# Altium schematic symbol library ICs.SchLib: 51 symbols (part 1 of 2)
Pins are listed as number, name and electrical type; pins without a type are passive.

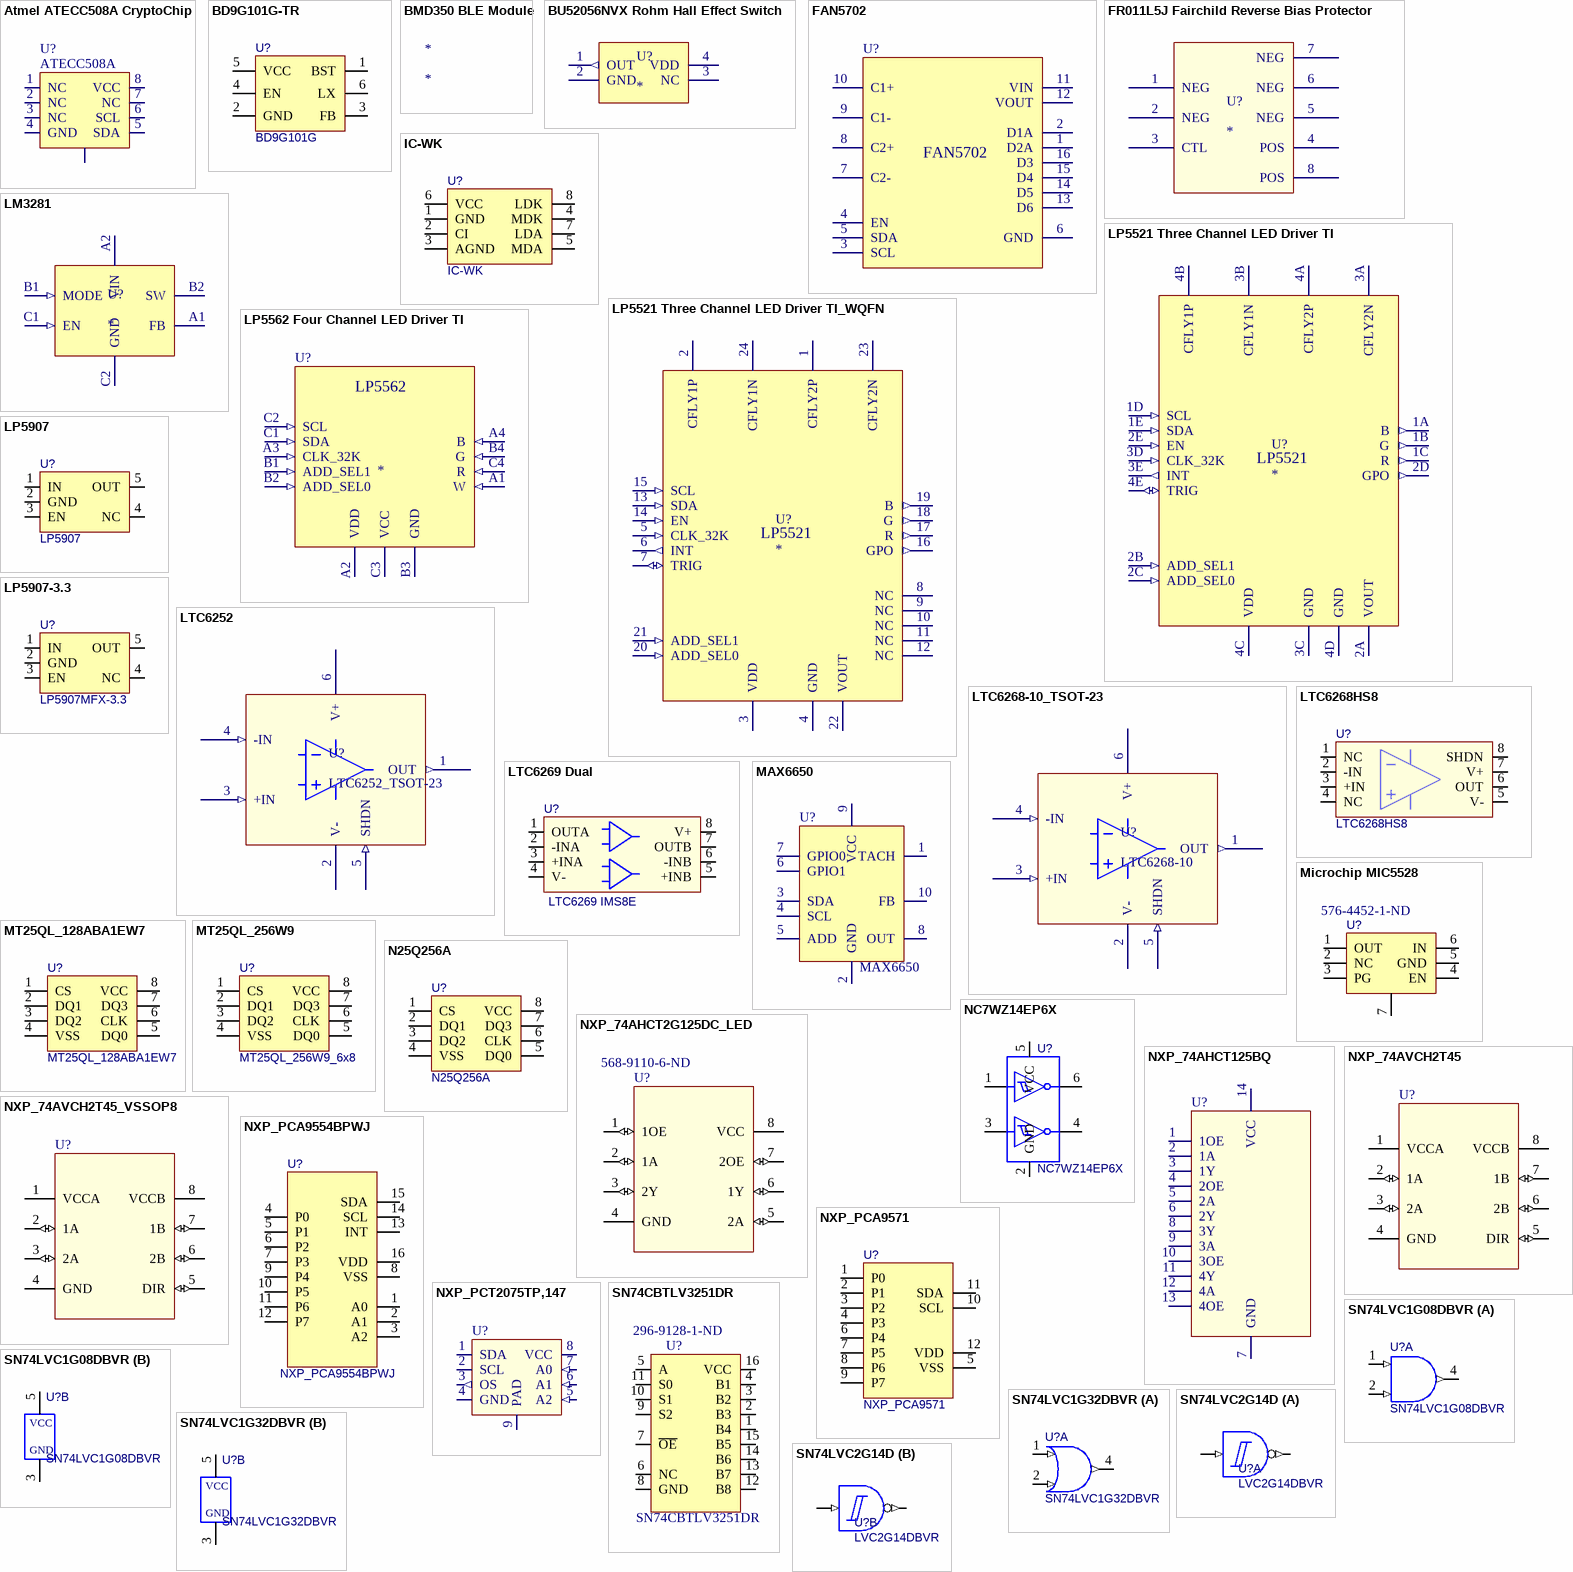
[diagram p0: symbols Atmel ATECC508A CryptoChip to SN74LVC2G14D]

## Atmel ATECC508A CryptoChip
designator U?, comment ATECC508A
IC CryptoAuthentication Device, I2C, 8-UFDFN Exposed Pad; Manufacturer: Atmel; Manufacturer Part Number: ATECC508A-MAHDA-S; TZOA PN: 242-00001; Supplier 1: Digikey; Stock 1: 92601; Pricing 1: 1=0.73, 25=0.678 (USD); Category: Integrated Circuits (ICs); Family: Specialized ICs; Series: CryptoAuthentication™; Packaging: Cut Tape (CT); Type: Authentication Chip; Applications: Networking and Communications; Mounting Type: Surface Mount; Package / Case: 8-UFDFN Exposed Pad; Supplier Device Package: 8-UDFN (2x3); Supplier Part Number 1: ATECC508A-MAHDA-SCT-ND; Supplier 2: Digi-Key; Stock 2: 52626; Pricing 2: 1=0.78, 25=0.7196, 100=0.7063 (USD)
footprint 8-UDFN 2x3 (JEDEC MO-229)
pins: 1 NC, 2 NC, 3 NC, 4 GND (power), 5 SDA (io), 6 SCL (io), 7 NC, 8 VCC (power), 9 PAD (power)

## BD9G101G-TR
designator U?, comment BD9G101G
IC, Switching Regulator,0.5A,SOT-23-6; Manufacturer: Rohm Semiconductor; Manufacturer Part Number: BD9G101G-TR; Details: 0.5A; Supplier 1: Digi-Key; Supplier Part Number 1: BD9G101G-CT-ND; Package: SOT-23-6; Temperature Range: -40°C ~ 105°C
footprint SOT-23T-6 (SOT-23.ogl)
pins: 1 BST, 2 GND, 3 FB, 4 EN, 5 VCC, 6 LX

## BMD350 BLE Module
designator *

## BU52056NVX Rohm Hall Effect Switch
designator U?
Supplier 1: Digi-Key; Supplier Part Number 1: BU52056NVXCT-ND
footprint BU52056NVX (Rohm hall effect sensor)
pins: 1 OUT (out), 2 GND (power), 3 NC, 4 VDD (power)

## FAN5702
designator U?  (value not drawn)
4 Channel LED Driver; Manufacturer: ON Semiconductor / Fairchild; Manufacturer Part Number: FAN5702UMP08X; Design Resources: Lighting Product Selector; Topology: Switched Capacitor (Charge Pump); Internal Switch(s): Yes; Number of Outputs: 6; Voltage - Supply (Min): 2.7V; Voltage - Supply (Max): 5.5V; Current - Output / Channel: 30mA; Frequency: 1.2MHz; Dimming: I²C, PWM; Other Names: FAN5702UMP08X-ND  FAN5702UMP08XTR; Supplier 1: Digi-Key; Stock 1: 1351; Pricing 1: 1=1, 10=0.896, 100=0.6989, 500=0.5773, 1000=0.4558 (USD); Standard Package: 3,000; Category: Integrated Circuits (ICs); Family: PMIC - LED Drivers; Series: -; Packaging: Tape & Reel (TR); Type: DC DC Regulator; Voltage - Output: -; Applications: Backlight; Operating Temperature: -40°C ~ 85°C (TA); Mounting Type: Surface Mount; Package / Case: 16-UFQFN Exposed Pad; Supplier Device Package: 16-UMLP (3x3); ComponentLink1URL: https://datasheet.ciiva.com/15135/getdatasheetpartid-659894-15135745.pdf; ComponentLink1Description: https://datasheet.ciiva.com/15135/getdatasheetpartid-659894-15135745.pdf; ComponentLink2URL: https://datasheet.ciiva.com/29602/fan5702-29602741.pdf; ComponentLink2Description: https://datasheet.ciiva.com/29602/fan5702-29602741.pdf; ComponentLink3URL: https://datasheet.ciiva.com/3164/fan5702-3164267.pdf; ComponentLink3Description: https://datasheet.ciiva.com/3164/fan5702-3164267.pdf; ComponentLink4URL: https://datasheet.ciiva.com/26111/fan5702-26111037.pdf; ComponentLink4Description: https://datasheet.ciiva.com/26111/fan5702-26111037.pdf; Supplier Part Number 1: FAN5702UMP08XDKR-ND
footprint UMLP-16
pins: 1 D2A, 2 D1A, 3 SCL, 4 EN, 5 SDA, 6 GND, 7 C2-, 8 C2+, 9 C1-, 10 C1+, 11 VIN, 12 VOUT, 13 D6, 14 D5, 15 D4, 16 D3

## FR011L5J Fairchild Reverse Bias Protector
designator U?
Supplier 1: Digi-Key; Supplier Part Number 1: FR011L5JFSCT-ND
footprint FR011L5J
pins: 1 NEG (power), 2 NEG (power), 3 CTL (power), 4 POS (power), 5 NEG (power), 6 NEG (power), 7 NEG (power), 8 POS (power)

## IC-WK
designator U?
LASER DRIVER 2.4 V CW MSOP8; Manufacturer: IC-HAUS; Manufacturer Part Number: IC-WK MSOP8; TZOA PN: 292-00001; Supplier 1: SYMMETRY ELECTRONICS; Supplier Part Number 1: IC-WKMSOP8
footprint MSOP-8
pins: 1 GND, 2 CI, 3 AGND, 4 MDK, 5 MDA, 6 VCC, 7 LDA, 8 LDK

## LM3281
designator U?
Manufacturer: Texas Instruments; Manufacturer Part Number: LM3281YFQR; Function: Step-Down; Output Configuration: Positive; Topology: Buck; Output Type: Fixed; Number of Outputs: 1; Voltage - Input (Min): 3V; Voltage - Input (Max): 5.5V; Voltage - Output (Min/Fixed): 3.3V; Current - Output: 1.2A; Frequency - Switching: 6MHz; Synchronous Rectifier: Yes; Supplier 1: Digi-Key; Supplier Part Number 1: 296-40185-1-ND; RoHS: RoHS Compliant; Category: Integrated Circuits (ICs); Stock: 2636; Pricing: 1=1.3, 10=1.16, 100=0.9039, 500=0.7475, 1000=0.47673 (CAD); Packaging: Cut Tape (CT); Part Status: Active; Voltage - Output (Max): -; Operating Temperature: -30°C ~ 90°C (TA); Mounting Type: Surface Mount; Package / Case: 6-UFBGA, DSBGA; Supplier Device Package: 6-DSBGA; ComponentLink1URL: http://www.ti.com/lit/ds/symlink/lm3281.pdf; ComponentLink1Description: http://www.ti.com/lit/ds/symlink/lm3281.pdf
footprint 6 UFBGA
pins: A1 FB (power), A2 VIN (power), B1 MODE (in), B2 SW (power), C1 EN (in), C2 GND (power)

## LP5521 Three Channel LED Driver TI
designator U?
Manufacturer: Texas Instruments; Manufacturer Part Number: LP5521TMX/NOPB; Topology: Switched Capacitor (Charge Pump); Internal Switch(s): Yes; Number of Outputs: 3; Voltage - Supply (Min): 2.7V; Voltage - Supply (Max): 5.5V; Voltage - Output: 4.55V; Current - Output / Channel: 25.5mA; Frequency: 1.25MHz; Dimming: I²C; Supplier 1: Digi-Key; Supplier Part Number 1: 296-35208-1-ND; RoHS: RoHS Compliant; Category: Integrated Circuits (ICs); Stock: 2508; Pricing: 1=1.72, 10=1.546, 100=1.2056, 500=0.99706, 1000=0.63588 (CAD); Packaging: Cut Tape (CT); Part Status: Active; Type: DC DC Regulator; Applications: Backlight; Operating Temperature: -30°C ~ 85°C (TA); Mounting Type: Surface Mount; Package / Case: 20-WFBGA; Supplier Device Package: 20-TuSMD; ComponentLink1URL: http://www.ti.com/lit/ds/symlink/lp5521.pdf; ComponentLink1Description: http://www.ti.com/lit/ds/symlink/lp5521.pdf
footprint LP5521TM_DSBGA20
pins: 1A B (out), 1B G (out), 1C R (out), 1D SCL (in), 1E SDA (in), 2A VOUT (power), 2B ADD_SEL1 (in), 2C ADD_SEL0 (in), 2D GPO (out), 2E EN (in), 3A CFLY2N (power), 3B CFLY1N (power), 3C GND (power), 3D CLK_32K (in), 3E INT (out), 4A CFLY2P (power), 4B CFLY1P (power), 4C VDD (power), 4D GND (power), 4E TRIG (io)
text: LP5521

## LP5521 Three Channel LED Driver TI_WQFN
designator U?
Manufacturer: Texas Instruments; Manufacturer Part Number: LP5521YQX/NOPB; Topology: Switched Capacitor (Charge Pump); Internal Switch(s): Yes; Number of Outputs: 3; Voltage - Supply (Min): 2.7V; Voltage - Supply (Max): 5.5V; Voltage - Output: 4.5V; Current - Output / Channel: 25.5mA; Frequency: 1.25MHz; Dimming: I²C; Supplier 1: Digi-Key; Supplier Part Number 1: 296-43243-1-ND; RoHS: RoHS Compliant; Category: Integrated Circuits (ICs); Stock: 20667; Pricing: 1=2.32, 10=2.083, 100=1.6711, 500=1.3735, 1000=0.95381 (CAD); Packaging: Cut Tape (CT); Part Status: Active; Type: DC DC Regulator; Applications: Backlight; Operating Temperature: -30°C ~ 85°C (TA); Mounting Type: Surface Mount; Package / Case: 24-WFQFN Exposed Pad; Supplier Device Package: 24-WQFN (4x5); ComponentLink1URL: http://www.ti.com/lit/ds/symlink/lp5521.pdf; ComponentLink1Description: http://www.ti.com/lit/ds/symlink/lp5521.pdf
footprint LP5521YG_WQFN
pins: 1 CFLY2P (power), 2 CFLY1P (power), 3 VDD (power), 4 GND (power), 5 CLK_32K (in), 6 INT (out), 7 TRIG (io), 8 NC, 9 NC, 10 NC, 11 NC, 12 NC, 13 SDA (in), 14 EN (in), 15 SCL (in), 16 GPO (out), 17 R (out), 18 G (out), 19 B (out), 20 ADD_SEL0 (in), 21 ADD_SEL1 (in), 22 VOUT (power), 23 CFLY2N (power), 24 CFLY1N (power)
text: LP5521

## LP5562 Four Channel LED Driver TI
designator U?
4 Channel I2C LED Driver; Manufacturer: Texas Instruments; Manufacturer Part Number: LP5562TMX/NOPB; Number of Digits: 4; Operating Supply Voltage: 2.7 V to 5.5 V; Maximum Supply Current: 1 mA; Power Dissipation: Internally Limited; Supplier 1: Digi-Key; Stock 1: 25025; Pricing 1: 1=1.14, 10=1.015, 100=0.7912, 500=0.6536, 1000=0.516 (USD); Product Category: LED Display Drivers; RoHS: Details; Mounting Style: SMD/SMT; Package / Case: DSBGA-12; Maximum Operating Temperature: + 85 C; Minimum Operating Temperature: - 40 C; Packaging: Reel; Brand: Texas Instruments; Number of LEDs: 4; Series: LP5562; Factory Pack Quantity: 3000; ComponentLink1URL: https://datasheet.ciiva.com/29602/lp5562-29602908.pdf; ComponentLink1Description: https://datasheet.ciiva.com/29602/lp5562-29602908.pdf; Supplier Part Number 1: 296-39061-1-ND
footprint 12 DSBGA
pins: A1 W (in), A2 VDD (power), A3 CLK_32K (in), A4 B (in), B1 ADD_SEL1 (in), B2 ADD_SEL0 (in), B3 GND (power), B4 G (in), C1 SDA (in), C2 SCL (in), C3 VCC (power), C4 R (in)

## LP5907
designator U?
IC,SMD,LDO Low Noise,0.25A,SOT-23-5; Manufacturer: Texas Instruments; TZOA PN: 218-; Input Voltage MAX: 5.5 V; Dropout Voltage - Max: 250 mV; Output Current: 250 mA; Load Regulation: 0.001 %; Number of Outputs: 1 Output; Output Type: Fixed; Input Voltage MIN: 2.2 V; Line Regulation: 0.02 %; Output Voltage Tolerance: 2 %; PSRR / Ripple Rejection - Typ: 82 dB; Supplier 1: Digi-Key; Stock 1: 81974; Pricing 1: 1=0.57, 10=0.487, 100=0.3634, 500=0.2855, 1000=0.2206 (USD); Product Category: LDO Voltage Regulators; RoHS: Details; Maximum Operating Temperature: + 125 C; Mounting Style: SMD/SMT; Package / Case: SOT-23-5; Brand: Texas Instruments; Minimum Operating Temperature: - 40 C; Packaging: Reel; Product: LDO Regulators; Series: LP5907; Factory Pack Quantity: 3000; Type: Ultra Low Noise Linear Regulator; ComponentLink1URL: https://datasheet.ciiva.com/15083/lp5907-15083592.pdf; ComponentLink1Description: https://datasheet.ciiva.com/15083/lp5907-15083592.pdf; ComponentLink2URL: https://datasheet.ciiva.com/48475/lp5907-48475084.pdf; ComponentLink2Description: https://datasheet.ciiva.com/48475/lp5907-48475084.pdf
footprint SOT-23T-5 (SOT-23-5pins.ogl)
pins: 1 IN, 2 GND, 3 EN, 4 NC, 5 OUT

## LP5907-3.3
designator U?, comment LP5907MFX-3.3
VOLTAGE REGULATOR Low-dropout (LDO) Positive Fixed Output 3.3V 250mA SOT23-5; Manufacturer: Texas Instruments; Manufacturer Part Number: LP5907MFX-3.3/NOPB; TZOA PN: 218-00004; Input Voltage MAX: 5.5 V; Dropout Voltage - Max: 250 mV; Load Regulation: 0.001 %; Number of Outputs: 1 Output; Input Voltage MIN: 2.2 V; Line Regulation: 0.02 %; Output Voltage Tolerance: 2 %; PSRR / Ripple Rejection - Typ: 82 dB; Supplier 1: Digi-Key; Stock 1: 81974; Pricing 1: 1=0.57, 10=0.487, 100=0.3634, 500=0.2855, 1000=0.2206 (USD); Product Category: LDO Voltage Regulators; RoHS: Details; Output Voltage: 3.3 V; Output Current: 250 mA; Output Type: Fixed; Maximum Operating Temperature: + 125 C; Mounting Style: SMD/SMT; Package / Case: SOT-23-5; Brand: Texas Instruments; Minimum Operating Temperature: - 40 C; Packaging: Reel; Product: LDO Regulators; Series: LP5907; Factory Pack Quantity: 3000; Type: Ultra Low Noise Linear Regulator; ComponentLink1URL: https://datasheet.ciiva.com/15083/lp5907-15083592.pdf; ComponentLink1Description: https://datasheet.ciiva.com/15083/lp5907-15083592.pdf; ComponentLink2URL: https://datasheet.ciiva.com/48475/lp5907-48475084.pdf; ComponentLink2Description: https://datasheet.ciiva.com/48475/lp5907-48475084.pdf; Supplier Part Number 1: 296-38557-1-ND
footprint SOT-23T-5 (SOT-23-5pins.ogl)
pins: 1 IN, 2 GND, 3 EN, 4 NC, 5 OUT

## LTC6252
designator U?, comment LTC6252_TSOT-23
720MHz Low Power OpAmp; Manufacturer: Linear Technology; Manufacturer Part Number: LTC6252HS6#TRMPBF; Amplifier Type: General Purpose; Number of Circuits: 1; Output Type: Rail-to-Rail; Slew Rate: 280 V/µs; -3db Bandwidth: 400MHz; Current - Input Bias: 1.4µA; Voltage - Input Offset: 100µV; Current - Supply: 4.25mA; Current - Output / Channel: 100mA; Voltage - Supply, Single/Dual (±): 2.5 V ~ 5.25 V, ±1.25 V ~ 2.625 V; Supplier 1: Digi-Key; Supplier Part Number 1: LTC6252HS6#TRMPBFCT-ND; RoHS: RoHS Compliant; Category: Integrated Circuits (ICs); Stock: 1297; Pricing: 1=6.51, 25=5.82, 100=3.7969, 250=3.48044 (CAD); Packaging: Cut Tape (CT); Part Status: Active; Gain Bandwidth Product: 720MHz; Operating Temperature: -40°C ~ 125°C; Mounting Type: Surface Mount; Package / Case: SOT-23-6 Thin, TSOT-23-6; Supplier Device Package: TSOT-23-6; ComponentLink1URL: http://www.linear.com/docs/29736; ComponentLink1Description: http://www.linear.com/docs/29736
footprint TSOT-23 6 Lead
pins: 1 OUT (out), 2 V- (power), 3 +IN (in), 4 -IN (in), 5 SHDN (in), 6 V+ (power)

## LTC6268-10_TSOT-23
designator U?, comment LTC6268-10
4GHz Ultra Low BIas Current Op Amp; Manufacturer: Linear Technology; Manufacturer Part Number: LTC6268HS8-10#PBF; Amplifier Type: General Purpose; Output Type: Rail-to-Rail; Slew Rate: 1500 V/µs; Current - Input Bias: 4pA; Voltage - Input Offset: 200µV; Current - Supply: 16.5mA; Current - Output / Channel: 90mA; Voltage - Supply, Single/Dual (±): 3.1 V ~ 5.25 V; ID: 25774387; Supplier 1: Digi-Key; RoHS: RoHS Compliant; Category: Integrated Circuits (ICs); Packaging: Tube; Number of Circuits: -; Gain Bandwidth Product: 4GHz; -3db Bandwidth: -; Operating Temperature: -40°C ~ 125°C; Mounting Type: Surface Mount; Package / Case: 8-SOIC (0.154", 3.90mm Width); Supplier Device Package: 8-SOIC; ComponentLink1URL: http://www.linear.com/docs/46371; ComponentLink1Description: http://www.linear.com/docs/46371; Supplier 2: Arrow; Package Quantity: 1; ComponentLink2URL: https://www.arrow.com/en/products/ltc6268is8-10pbf/linear-technology/; ComponentLink2Description: https://www.arrow.com/en/products/ltc6268is8-10pbf/linear-technology/; Supplier Part Number 1: LTC6268HS8-10#PBF-ND; Stock 1: 428; Pricing 1: 1=11.81, 25=7.8368, 100=6.404 (CAD); Supplier Part Number 2: eLpo549LpRG5mZP-RFg4RAMp98xUs1T7prrhO8NBVyQ; Stock 2: 400; Pricing 2: 1=4.73, 100=3.94 (USD)
footprint TSOT-23 6 Lead
pins: 1 OUT (out), 2 V- (power), 3 +IN (in), 4 -IN (in), 5 SHDN (in), 6 V+ (power)

## LTC6268HS8
designator U?
IC OP-AMP Single/Dual 4GHz FET 8-SOIC; Manufacturer: Linear Technology; Manufacturer Part Number: LTC6268HS8-10#PBF; Amplifier Type: General Purpose; Output Type: Rail-to-Rail; Slew Rate: 1500 V/µs; Current - Input Bias: 4pA; Voltage - Input Offset: 200µV; Current - Supply: 16.5mA; Current - Output / Channel: 90mA; Voltage - Supply, Single/Dual (±): 3.1 V ~ 5.25 V; ID: 25774387; TZOA PN: 235-00001; Supplier 1: Digi-Key; RoHS: RoHS Compliant; Category: Integrated Circuits (ICs); Packaging: Tube; Number of Circuits: -; Gain Bandwidth Product: 4GHz; -3db Bandwidth: -; Operating Temperature: -40°C ~ 125°C; Mounting Type: Surface Mount; Package / Case: 8-SOIC (0.154", 3.90mm Width); Supplier Device Package: 8-SOIC; ComponentLink1URL: http://www.linear.com/docs/46371; ComponentLink1Description: http://www.linear.com/docs/46371; Supplier 2: Arrow; Package Quantity: 1; ComponentLink2URL: https://www.arrow.com/en/products/ltc6268is8-10pbf/linear-technology/; ComponentLink2Description: https://www.arrow.com/en/products/ltc6268is8-10pbf/linear-technology/; Supplier Part Number 1: LTC6268HS8-10#PBF-ND; Stock 1: 428; Pricing 1: 1=11.81, 25=7.8368, 100=6.404 (CAD); Supplier Part Number 2: eLpo549LpRG5mZP-RFg4RAMp98xUs1T7prrhO8NBVyQ; Stock 2: 400; Pricing 2: 1=4.73, 100=3.94 (USD)
footprint S8 (8-Lead Splastic Small Outline Linear)
pins: 1 NC, 2 -IN, 3 +IN, 4 NC, 5 V-, 6 OUT, 7 V+, 8 SHDN

## LTC6269 Dual
designator U?, comment LTC6269 IMS8E
IC OP-AMP Dual 4GHz FET 8-SOIC; Manufacturer: Analog Devices / Linear Technology; Manufacturer Part Number: LTC6269IMS8E-10#PBF; Amplifier Type: General Purpose; Output Type: Rail-to-Rail; Slew Rate: 1500 V/µs; Current - Input Bias: 4pA; Voltage - Input Offset: 200µV; Current - Supply: 16.5mA; Current - Output / Channel: 90mA; Voltage - Supply, Single/Dual (±): 3.1 V ~ 5.25 V; Supplier 1: Digi-Key; Stock 1: 299; Pricing 1: 1=12.3, 25=8.168, 100=6.681 (USD); Category: Integrated Circuits (ICs); Family: Linear - Amplifiers - Instrumentation, OP Amps, Buffer Amps; Series: -; Packaging: Tube; Number of Circuits: -; Gain Bandwidth Product: 4GHz; -3db Bandwidth: -; Operating Temperature: -40°C ~ 85°C; Mounting Type: Surface Mount; Package / Case: 8-TSSOP, 8-MSOP (0.118", 3.00mm Width) Exposed Pad; Supplier Device Package: 8-MSOP-EP; Supplier Part Number 1: LTC6269IMS8E-10#PBF-ND
footprint MS8E (8 Lead Plastic MSOP Exposer Die Pad)
pins: 1 OUTA, 2 -INA, 3 +INA, 4 V-, 5 +INB, 6 -INB, 7 OUTB, 8 V+

## MAX6650
designator U?
IC Motor Regulator/Monitor with I2C; Manufacturer: Maxim; Manufacturer Part Number: MAX6650EUB+T; TZOA PN: 294-00002; Product Training Modules: Lead (SnPb) Finish for COTS / Long-Term Supply Program; Number of Outputs: 1; Voltage - Load: 0.3 V ~ 5.2 V; Voltage - Supply: 3 V ~ 5.5 V; Dynamic Catalog: Controllers; Other Names: MAX6650EUB+TDKR; Supplier 1: Digi-Key; Stock 1: 2187; Pricing 1: 1=5.76, 10=5.432, 25=4.3452, 50=4.128, 100=3.8021, 250=3.6065, 500=3.4762 (USD); Standard Package: 1; Category: Integrated Circuits (ICs); Family: PMIC - Motor and Fan Controllers, Drivers; Series: -; Applications: Fan Controller, Brushless (BLDC); Evaluation Tools: -; Current - Output: -; Operating Temperature: -40°C ~ 85°C; Mounting Type: Surface Mount; Package / Case: 10-TFSOP, 10-MSOP (0.118", 3.00mm Width); Supplier Device Package: 10-uMAX; Packaging: Digi-Reel®; ComponentLink1URL: https://datasheet.ciiva.com/1959/max6650-max6651-1959058.pdf; ComponentLink1Description: https://datasheet.ciiva.com/1959/max6650-max6651-1959058.pdf; ComponentLink2URL: https://datasheet.ciiva.com/1959/max6650-max6651-1959059.pdf; ComponentLink2Description: https://datasheet.ciiva.com/1959/max6650-max6651-1959059.pdf; ComponentLink3URL: https://datasheet.ciiva.com/1959/max6650-max6651-1959060.pdf; ComponentLink3Description: https://datasheet.ciiva.com/1959/max6650-max6651-1959060.pdf; ComponentLink4URL: https://datasheet.ciiva.com/3279/max6650-max6651-3279691.pdf; ComponentLink4Description: https://datasheet.ciiva.com/3279/max6650-max6651-3279691.pdf; ComponentLink5URL: https://datasheet.ciiva.com/4896/max6650-max6651-87663-4896363.pdf; ComponentLink5Description: https://datasheet.ciiva.com/4896/max6650-max6651-87663-4896363.pdf; ComponentLink6URL: https://datasheet.ciiva.com/16636/max6650-max6651-16636011.pdf; ComponentLink6Description: https://datasheet.ciiva.com/16636/max6650-max6651-16636011.pdf; ComponentLink7URL: https://datasheet.ciiva.com/26880/max6650eub-t-26880961.pdf; ComponentLink7Description: https://datasheet.ciiva.com/26880/max6650eub-t-26880961.pdf; Supplier Part Number 1: MAX6650EUB+TCT-ND
footprint 10-MSOP
pins: 1 TACH, 2 GND, 3 SDA, 4 SCL, 5 ADD, 6 GPIO1, 7 GPIO0, 8 OUT, 9 VCC (power), 10 FB

## Microchip MIC5528
designator U?, comment Supplier Part Number 1: 576-4452-1-ND  (hidden comment: MIC5528)
VOLTAGE REGULATOR Low-dropout (LDO) CMOS 300 mV Typical at 500 mA; Manufacturer: Microchip; Manufacturer Part Number: MIC5528-3.3YMX-TR; PCN Part Number: Micrel to Microchip PN Changes 7/Oct/2015; Regulator Topology: Positive Fixed; Voltage - Output: 3.3V; Current - Output: 500mA; Voltage - Dropout (Typical): 0.26V @ 500mA; Number of Regulators: 1; Voltage - Input: Up to 5.5V; Current - Limit (Min): 525mA; Online Catalog: 3.1V to 3.3V; Other Names: 576-4452-6; Supplier 1: Digi-Key; Stock 1: 3768; Pricing 1: 1=0.21, 25=0.1752, 100=0.1545 (USD); Standard Package: 1; Category: Integrated Circuits (ICs); Family: PMIC - Voltage Regulators - Linear; Series: -; Packaging: Digi-Reel®; Operating Temperature: -40°C ~ 125°C; Mounting Type: Surface Mount; Package / Case: 6-XFDFN Exposed Pad; Supplier Device Package: 6-TDFN (1.2x1.2); ComponentLink1URL: http://www.microchip.com/mymicrochip/filehandler.aspx?ddocname=en580311; ComponentLink1Description: http://www.microchip.com/mymicrochip/filehandler.aspx?ddocname=en580311
footprint WDFN-6 2x2
pins: 1 OUT (power), 2 NC, 3 PG, 4 EN, 5 GND, 6 IN, 7

## MT25QL_128ABA1EW7
designator U?
IC MEMORY Multiple I/O Serial Flash 256Mb 108 MHz 2.7V-3.6V -40°C to +85°C VPDFN-8; Manufacturer: Micron Technology; Manufacturer Part Number: MT25QL128ABA1EW7-0SITTR; Supplier 1: Digi-Key; Stock 1: 0; Pricing 1: 1=2.34 (USD); Supplier Part Number 1: 557-1791-1-ND
footprint 8 WSON 6x5
pins: 1 CS, 2 DQ1, 3 DQ2, 4 VSS, 5 DQ0, 6 CLK, 7 DQ3, 8 VCC

## MT25QL_256W9
designator U?, comment MT25QL_256W9_6x8
256Mb Flash Chip 6x8mm Package; Manufacturer: Micron Technology; Manufacturer Part Number: MT25QL256ABA1EW9-0AATTR; Supplier 1: Digi-Key; Stock 1: 0; ComponentLink1URL: https://www.micron.com/~/media/documents/products/data-sheet/nor-flash/serial-nor/mt25q/die-rev-a/mt25q_qljs_l_256_aba_0.pdf; ComponentLink1Description: https://www.micron.com/~/media/documents/products/data-sheet/nor-flash/serial-nor/mt25q/die-rev-a/mt25q_qljs_l_256_aba_0.pdf; Supplier Part Number 1: MT25QL256ABA1EW9-0AAT TR-ND
footprint 8 WSON 6x8
pins: 1 CS, 2 DQ1, 3 DQ2, 4 VSS, 5 DQ0, 6 CLK, 7 DQ3, 8 VCC

## N25Q256A
designator U?
IC MEMORY Multiple I/O Serial Flash 256Mb 108 MHz 2.7V-3.6V -40°C to +85°C VPDFN-8; Manufacturer: Micron Technology Inc.; Manufacturer Part Number: N25Q256A13EF840E; Memory Type: FLASH - NOR; Memory Size: 256M (64Mx4); Speed: 108MHz; Interface: SPI Serial; Voltage - Supply: 2.7 V ~ 3.6 V; ID: 1819602; TZOA PN: 293-00001; Supplier 1: Digi-Key; Supplier Part Number 1: 557-1565-ND; RoHS: RoHS Compliant; Category: Integrated Circuits (ICs); Stock: 5718; Pricing: 1=3.86, 10=3.476, 25=3.42, 50=3.4108, 100=3.0477, 250=2.94868, 500=2.93766, 1000=2.73595, 5000=2.47556 (CAD); Packaging: Tray; Format - Memory: FLASH; Operating Temperature: -40°C ~ 85°C (TA); Package / Case: 8-VDFN Exposed Pad; Supplier Device Package: 8-VDFPN (MLP8) (8x6); ComponentLink1URL: https://www.micron.com/~/media/documents/products/data-sheet/nor-flash/serial-nor/n25q/n25q_256mb_3v.pdf; ComponentLink1Description: https://www.micron.com/~/media/documents/products/data-sheet/nor-flash/serial-nor/n25q/n25q_256mb_3v.pdf; Supplier 2: Arrow; Supplier Part Number 2: YI4jXiPrria2MpKdJRBivvBbra7LoI3_P1MdQyFqsHc; Package Quantity: 1; ComponentLink2URL: https://www.arrow.com/en/products/n25q256a13ef840e/micron-technology/; ComponentLink2Description: https://www.arrow.com/en/products/n25q256a13ef840e/micron-technology/
footprint MLP8
pins: 1 CS, 2 DQ1, 3 DQ2, 4 VSS, 5 DQ0, 6 CLK, 7 DQ3, 8 VCC

## NC7WZ14EP6X
designator U?
IC, SMD, Dual Schmitt Trigger Inverter, SC70; Manufacturer: Fairchild Semiconductor; TZOA PN: XXX; Operating Supply Voltage: 1.65 V to 5.5 V; Number of Circuits: 2 Circuit; Logic Family: NC7WZ; Supply Voltage - Max: 5.5 V; Supply Voltage - Min: 1.65 V; High Level Output Current: - 24 mA; Low Level Output Current: 24 mA; Propagation Delay Time: 3.2 ns; Unit Weight: 0.000988 oz; Supplier 1: Digi-Key; Manufacturer Part Number: NC7WZ14EP6X; Stock 1: 8989; Pricing 1: 1=0.41, 10=0.307, 100=0.174, 500=0.1153, 1000=0.0884 (USD); Product Category: Inverters; RoHS: Details; Logic Type: Schmitt Trigger Inverter; Maximum Operating Temperature: + 125 C; Mounting Style: SMD/SMT; Package / Case: SC-70; Packaging: Cut Tape (CT); Brand: Fairchild Semiconductor; Input Type: Schmitt Trigger; Minimum Operating Temperature: - 40 C; Operating Temperature Range: - 40 C to + 125 C; Output Type: Schmitt Trigger; Series: NC7WZ14; Factory Pack Quantity: 3000; ComponentLink1URL: https://datasheet.ciiva.com/26044/nc7wz14-26044490.pdf; ComponentLink1Description: https://datasheet.ciiva.com/26044/nc7wz14-26044490.pdf; ComponentLink2URL: https://datasheet.ciiva.com/46415/1725703-46415116.pdf; ComponentLink2Description: https://datasheet.ciiva.com/46415/1725703-46415116.pdf; ComponentLink3URL: https://datasheet.ciiva.com/1870/nc7wz14-1870045.pdf; ComponentLink3Description: https://datasheet.ciiva.com/1870/nc7wz14-1870045.pdf; ComponentLink4URL: https://datasheet.ciiva.com/1870/nc7wz14-1870046.pdf; ComponentLink4Description: https://datasheet.ciiva.com/1870/nc7wz14-1870046.pdf; ComponentLink5URL: https://datasheet.ciiva.com/17399/nc7wz14-17399390.pdf; ComponentLink5Description: https://datasheet.ciiva.com/17399/nc7wz14-17399390.pdf; ComponentLink6URL: https://datasheet.ciiva.com/1870/nc7wz14-1870047.pdf; ComponentLink6Description: https://datasheet.ciiva.com/1870/nc7wz14-1870047.pdf; Supplier Part Number 1: NC7WZ14EP6XCT-ND
footprint SC70
pins: 1, 2 GND, 3, 4, 5 VCC, 6

## NXP_74AHCT2G125DC_LED
designator U?  Supplier Part Number 1: 568-9110-6-ND  (hidden comment: *)
IC 2-bit Dual Supply Level Translator, 8VSSOP; Manufacturer: NXP Semiconductors; Manufacturer Part Number: 74AHCT2G125DC,125; High Level Output Current: -8 mA; Logic Family: AHCT; Logical Function: Buffer/Line Driver; Low Level Output Current: 8 mA; Number of  Elements: 2; Operating Supply Voltage (Max): 5.5 V; Operating Supply Voltage (Min): 4.5 V; Operating Supply Voltage (Typ): 5 V; Output Type: 3-State; Polarity: Non-Inverting; Propagation Delay Time: 10 ns; Quiescent Current: 1 uA; Rad Hardened: No; Supplier 1: Digi-Key; Stock 1: 0; Mounting: Surface Mount; Number of Channels: 2; Number of Inputs: 2; Number of Outputs: 2; Operating Temp Range: -40C to 125C; Operating Temperature Classification: Automotive; Package Type: VSSOP; Packaging: Tape and Reel; Pin Count: 8; Technology: CMOS; ComponentLink1URL: https://datasheet.ciiva.com/1837/74ahc-ahct2g125-1837568.pdf; ComponentLink1Description: https://datasheet.ciiva.com/1837/74ahc-ahct2g125-1837568.pdf; ComponentLink2URL: https://datasheet.ciiva.com/16216/74ahc-ahct2g125-16216726.pdf; ComponentLink2Description: https://datasheet.ciiva.com/16216/74ahc-ahct2g125-16216726.pdf; ComponentLink3URL: https://datasheet.ciiva.com/17291/74ahc-ahct2g125-17291544.pdf; ComponentLink3Description: https://datasheet.ciiva.com/17291/74ahc-ahct2g125-17291544.pdf; ComponentLink4URL: https://datasheet.ciiva.com/1837/74ahc-ahct2g125-1837566.pdf; ComponentLink4Description: https://datasheet.ciiva.com/1837/74ahc-ahct2g125-1837566.pdf; ComponentLink5URL: https://datasheet.ciiva.com/1837/74ahc-ahct2g125-1837567.pdf; ComponentLink5Description: https://datasheet.ciiva.com/1837/74ahc-ahct2g125-1837567.pdf
footprint VSSOP8 (VSSOP8 (SOT765-1))
pins: 1 1OE (io), 2 1A (io), 3 2Y (io), 4 GND (power), 5 2A (io), 6 1Y (io), 7 2OE (io), 8 VCC (power)

## NXP_74AHCT125BQ
designator U?  (value not drawn)
4 Channel Supply Level Translator Transceiver; Manufacturer: NXP Semiconductors; Manufacturer Part Number: 74AHCT125BQ,115; Logic Family: AHCT; Logical Function: Buffer/Line Driver; Number of  Elements: 4; Operating Supply Voltage (Typ): 5V; Output Type: 3-State; Polarity: Non-Inverting; Propagation Delay Time: 11ns; High Level Output Current: -8mA; Low Level Output Current: 8mA; Operating Supply Voltage (Max): 5.5V; Operating Supply Voltage (Min): 4.5V; Quiescent Current: 2uA; Supplier 1: Digi-Key; Stock 1: 85917; Pricing 1: 1=0.39, 10=0.338, 100=0.2524, 500=0.1983, 1000=0.1532 (USD); Number of Channels: 4; Number of Inputs: 4; Number of Outputs: 4; Package Type: DHVQFN EP; Packaging: Tape and Reel; Technology: CMOS; Pin Count: 14; Mounting: Surface Mount; Operating Temp Range: -40C to 125C; Operating Temperature Classification: Automotive; ComponentLink1URL: https://datasheet.ciiva.com/1837/74ahc-ahct125-1837513.pdf; ComponentLink1Description: https://datasheet.ciiva.com/1837/74ahc-ahct125-1837513.pdf; ComponentLink2URL: https://datasheet.ciiva.com/1837/74ahc-ahct125-1837514.pdf; ComponentLink2Description: https://datasheet.ciiva.com/1837/74ahc-ahct125-1837514.pdf; ComponentLink3URL: https://datasheet.ciiva.com/1837/74ahc-ahct125-1837515.pdf; ComponentLink3Description: https://datasheet.ciiva.com/1837/74ahc-ahct125-1837515.pdf; ComponentLink4URL: https://datasheet.ciiva.com/8260/74ahc-ahct125-8260251.pdf; ComponentLink4Description: https://datasheet.ciiva.com/8260/74ahc-ahct125-8260251.pdf; ComponentLink5URL: https://datasheet.ciiva.com/6622/74ahc-ahct125-6622893.pdf; ComponentLink5Description: https://datasheet.ciiva.com/6622/74ahc-ahct125-6622893.pdf; ComponentLink6URL: https://datasheet.ciiva.com/8262/74ahc-ahct125-8262765.pdf; ComponentLink6Description: https://datasheet.ciiva.com/8262/74ahc-ahct125-8262765.pdf; ComponentLink7URL: https://datasheet.ciiva.com/17291/74ahc-ahct125-17291502.pdf; ComponentLink7Description: https://datasheet.ciiva.com/17291/74ahc-ahct125-17291502.pdf; Supplier Part Number 1: 1727-6782-1-ND
footprint SOT762-1
pins: 1 1OE, 2 1A, 3 1Y, 4 2OE, 5 2A, 6 2Y, 7 GND, 8 3Y, 9 3A, 10 3OE, 11 4Y, 12 4A, 13 4OE, 14 VCC

## NXP_74AVCH2T45
designator U?  (value not drawn)
Dual Supply Level Translator Transceiver; Manufacturer: NXP Semiconductors; Manufacturer Part Number: 74AVCH2T45GT,115; TZOA PN: 234-00001; Logic Family: AVC; Operating Supply Voltage (Typ): 1.8/2.5/3.3V; Propagation Delay Time: 19.6ns; Number of  Elements: 1; Number of Channels: 2; Input Logic Level: CMOS; Output Type: 3-State; Polarity: Non-Inverting; Logical Function: Bus Transceiver with Voltage Translation; Operating Supply Voltage (Min): 0.8V; Operating Supply Voltage (Max): 3.6V; Supplier 1: Digi-Key; Stock 1: 12945; Pricing 1: 1=0.42, 10=0.355, 100=0.2653, 500=0.2085, 1000=0.1611 (USD); Output Logic Level: CMOS; Package Type: XSON; Packaging: Cut Tape (CT); Technology: CMOS; Operating Temp Range: -40C to 125C; Operating Temperature Classification: Automotive; Mounting: Surface Mount; Pin Count: 8; ComponentLink1URL: https://datasheet.ciiva.com/8243/74avch2t45-8243656.pdf; ComponentLink1Description: https://datasheet.ciiva.com/8243/74avch2t45-8243656.pdf; ComponentLink2URL: https://datasheet.ciiva.com/1898/74avch2t45-1898954.pdf; ComponentLink2Description: https://datasheet.ciiva.com/1898/74avch2t45-1898954.pdf; ComponentLink3URL: https://datasheet.ciiva.com/17370/74avch2t45-17370346.pdf; ComponentLink3Description: https://datasheet.ciiva.com/17370/74avch2t45-17370346.pdf; ComponentLink4URL: https://datasheet.ciiva.com/1898/74avch2t45-1898955.pdf; ComponentLink4Description: https://datasheet.ciiva.com/1898/74avch2t45-1898955.pdf; ComponentLink5URL: https://datasheet.ciiva.com/1898/74avch2t45-1898956.pdf; ComponentLink5Description: https://datasheet.ciiva.com/1898/74avch2t45-1898956.pdf; ComponentLink6URL: https://datasheet.ciiva.com/16402/74avch2t45-16402542.pdf; ComponentLink6Description: https://datasheet.ciiva.com/16402/74avch2t45-16402542.pdf; Supplier Part Number 1: 1727-6903-1-ND
footprint SOT833-1
pins: 1 VCCA (power), 2 1A (io), 3 2A (io), 4 GND (power), 5 DIR (io), 6 2B (io), 7 1B (io), 8 VCCB (power)

## NXP_74AVCH2T45_VSSOP8
designator U?  (value not drawn)
IC 2-bit Dual Supply Level Translator, 8VSSOP; Manufacturer: NXP Semiconductors; Manufacturer Part Number: 74AVCH2T45DC,125; TZOA PN: 234-00002; Abs. Propagation Delay Time: 28 ns; High Level Output Current: -12 mA; Input Logic Level: CMOS; Logic Family: AVC; Low Level Output Current: 12 mA; Number of  Elements: 1; Number of Channels: 2; Operating Supply Voltage (Max): 3.6 V; Operating Supply Voltage (Min): 0.8 V; Operating Supply Voltage (Typ): 1.8/2.5/3.3 V; Output Type: 3-State; Polarity: Non-Inverting; Propagation Delay Time: 19.6 ns; Rad Hardened: No; Supplier 1: Digi-Key; Stock 1: 7243; Pricing 1: 1=0.54, 10=0.464, 100=0.3461, 500=0.2719, 1000=0.2101 (USD); Mounting: Surface Mount; Operating Temp Range: -40C to 125C; Operating Temperature (Max): 125C; Operating Temperature (Min): -40C; Operating Temperature Classification: Automotive; Output Logic Level: CMOS; Package Type: VSSOP; Packaging: Cut Tape (CT); Pin Count: 8; Technology: CMOS; ComponentLink1URL: https://datasheet.ciiva.com/1900/74avch2t45-1900192.pdf; ComponentLink1Description: https://datasheet.ciiva.com/1900/74avch2t45-1900192.pdf; ComponentLink2URL: https://datasheet.ciiva.com/8243/74avch2t45-8243648.pdf; ComponentLink2Description: https://datasheet.ciiva.com/8243/74avch2t45-8243648.pdf; ComponentLink3URL: https://datasheet.ciiva.com/17370/74avch2t45-17370342.pdf; ComponentLink3Description: https://datasheet.ciiva.com/17370/74avch2t45-17370342.pdf; ComponentLink4URL: https://datasheet.ciiva.com/1900/74avch2t45-1900190.pdf; ComponentLink4Description: https://datasheet.ciiva.com/1900/74avch2t45-1900190.pdf; ComponentLink5URL: https://datasheet.ciiva.com/1900/74avch2t45-1900191.pdf; ComponentLink5Description: https://datasheet.ciiva.com/1900/74avch2t45-1900191.pdf; Supplier Part Number 1: 1727-6902-1-ND
footprint VSSOP8 (VSSOP8 (SOT765-1))
pins: 1 VCCA (power), 2 1A (io), 3 2A (io), 4 GND (power), 5 DIR (io), 6 2B (io), 7 1B (io), 8 VCCB (power)

## NXP_PCA9554BPWJ
designator U?
GPIO Expander 8 Pin Port; Manufacturer: NXP Semiconductors; Product Training Modules: I²C Bus Fundamentals; Interface: I²C, SMBus; Number of I /O: 8; Interrupt Output: Yes; Frequency - Clock: 400kHz; Voltage - Supply: 1.65 V ~ 5.5 V; Includes: POR; Other Names: 568-9917-6; Supplier 1: Digi-Key; Manufacturer Part Number: PCA9554BPWJ; Stock 1: 5121; Pricing 1: 1=1.44, 10=1.285, 100=1.0021, 500=0.8278, 1000=0.6535 (USD); Standard Package: 1; Category: Integrated Circuits (ICs); Family: Interface - I/O Expanders; Series: -; Operating Temperature: -40°C ~ 85°C; Mounting Type: Surface Mount; Package / Case: 16-TSSOP (0.173", 4.40mm Width); Supplier Device Package: 16-TSSOP; Packaging: Digi-Reel®; ComponentLink1URL: https://datasheet.ciiva.com/6633/design-con-2003-tecforum-i2c-bus-overview-6633021.pdf; ComponentLink1Description: https://datasheet.ciiva.com/6633/design-con-2003-tecforum-i2c-bus-overview-6633021.pdf; ComponentLink2URL: https://datasheet.ciiva.com/6633/design-con-2003-tecforum-i2c-bus-overview-6633022.pdf; ComponentLink2Description: https://datasheet.ciiva.com/6633/design-con-2003-tecforum-i2c-bus-overview-6633022.pdf; ComponentLink3URL: https://datasheet.ciiva.com/6633/design-con-2003-tecforum-i2c-bus-overview-6633023.pdf; ComponentLink3Description: https://datasheet.ciiva.com/6633/design-con-2003-tecforum-i2c-bus-overview-6633023.pdf; Supplier Part Number 1: 568-9917-1-ND
footprint SOT403-1
pins: 1 A0, 2 A1, 3 A2, 4 P0, 5 P1, 6 P2, 7 P3, 8 VSS, 9 P4, 10 P5, 11 P6, 12 P7, 13 INT, 14 SCL, 15 SDA, 16 VDD

## NXP_PCA9571
designator U?
GPIO Expander 8 Pin Port Very Small; Manufacturer: NXP Semiconductors; Manufacturer Part Number: PCA9571GUX; Number of I/O: 8; Interface: I²C; Interrupt Output: No; Output Type: Push-Pull; Frequency - Clock: 1MHz; Voltage - Supply: 1.1 V ~ 3.6 V; Supplier 1: Digi-Key; Stock 1: 3710; Pricing 1: 1=0.85, 10=0.76, 100=0.5923, 500=0.4893, 1000=0.3863 (USD); Category: Integrated Circuits (ICs); Family: Interface - I/O Expanders; Series: -; Packaging: Tape & Reel (TR); Features: POR; Current - Output Source/Sink: -; Operating Temperature: -40°C ~ 85°C; Mounting Type: Surface Mount; Package / Case: 12-XFQFN; Supplier Device Package: 12-XQFN (2x1.7); Supplier Part Number 1: 568-12400-1-ND
footprint SOT1174-1
pins: 1 P0, 2 P1, 3 P2, 4 P3, 5 VSS, 6 P4, 7 P5, 8 P6, 9 P7, 10 SCL, 11 SDA, 12 VDD

## NXP_PCT2075TP,147
designator U?  (value not drawn)
SENSOR Digital Temperature I²C-bus Fm+ ±1°C accuracy over -25°C to +100°C HWSON8; Manufacturer: NXP Semiconductors; Manufacturer Part Number: PCT2075TP,147; Minimum Quantity: Temp Monitoring System (Sensor), Watchdog; Featured Product: NXP-PCT2075 Temperature Sensor; PCN Packaging: Date Code Extended 18/Jul/2013; Sensor Type: Internal; Sensing Temperature: -55°C ~ 125°C; Accuracy: ±2°C; Topology: ADC (Sigma Delta), Oscillator, Register Bank; Output Type: 2-Wire Serial, I²C™; Output Alarm: No; Output Fan: Yes; Voltage - Supply: 2.7 V ~ 5.5 V; Dynamic Catalog: Temperature Monitoring System; Other Names: 568-10220-6; TZOA PN: 287-00001; Supplier 1: Digikey; Stock 1: 15233; Pricing 1: 1=0.7, 10=0.612, 100=0.4691, 500=0.3708, 1000=0.2966 (USD); Quantity Available: Digi-Reel®Alternate Packaging; Standard Package: 1; Category: Integrated Circuits (ICs); Family: PMIC - Thermal Management; Packaging: Cut Tape (CT); Function: Temp Monitoring System (Sensor), Watchdog; Operating Temperature: -55°C ~ 125°C; Mounting Type: Surface Mount; Package / Case: 8-WFDFN Exposed Pad; Supplier Device Package: 8-HWSON (2x3); ComponentLink1URL: https://datasheet.ciiva.com/15047/pct2075-15047621.pdf; ComponentLink1Description: https://datasheet.ciiva.com/15047/pct2075-15047621.pdf; ComponentLink2URL: https://datasheet.ciiva.com/46404/1867244-46404021.pdf; ComponentLink2Description: https://datasheet.ciiva.com/46404/1867244-46404021.pdf; ComponentLink3URL: https://datasheet.ciiva.com/16371/pct2075-16371704.pdf; ComponentLink3Description: https://datasheet.ciiva.com/16371/pct2075-16371704.pdf; ComponentLink4URL: https://datasheet.ciiva.com/29895/pct2075-29895103.pdf; ComponentLink4Description: https://datasheet.ciiva.com/29895/pct2075-29895103.pdf; Supplier Part Number 1: 568-10220-1-ND
footprint HWSON-8 (SOT1069-2)
pins: 1 SDA (io), 2 SCL (io), 3 OS (out), 4 GND (power), 5 A2 (in), 6 A1 (in), 7 A0 (in), 8 VCC (power), 9 PAD (power)

## SN74CBTLV3251DR
designator U?  Supplier Part Number 1: 296-9128-1-ND
Supplier 1: Digi-Key
pins: 1 B4, 2 B3, 3 B2, 4 B1, 5 A, 6 NC, 7 ~{OE}, 8 GND (power), 9 S2, 10 S1, 11 S0, 12 B8, 13 B7, 14 B6, 15 B5, 16 VCC (power)

## SN74LVC1G08DBVR
designator U?
IC, SMD, Dual AND gate, SOT-23-5; Manufacturer: Texas Instruments; TZOA PN: 238-00001; Logic Family: 74LVC; Number of Gates: 1 Gate; Number of Input Lines: 2 Input; Number of Output Lines: 1 Output; High Level Output Current: - 32 mA; Low Level Output Current: 32 mA; Propagation Delay Time: 4.5 ns; Supply Voltage - Max: 5.5 V; Supply Voltage - Min: 1.65 V; Logic Type: 2-Input AND; Unit Weight: 0.000557 oz; Manufacturer Part Number: SN74LVC1G08DBVR; Created Date: 2013-03-09; Supplier 1: Digi-Key; Supplier Part Number 1: 296-11601-1-ND; Stock 1: 71187; Pricing 1: 1=0.42, 10=0.314, 100=0.1957, 500=0.1339, 1000=0.103 (USD); Product Category: Logic Gates; RoHS: True; Product: Single-Function Gate; Logic Function: AND; Maximum Operating Temperature: + 85 C; Mounting Style: SMD/SMT; Package / Case: SOT-23-5; Packaging: Cut Tape (CT); Brand: Texas Instruments; Minimum Operating Temperature: - 40 C; Series: SN74LVC1G08; ComponentLink1URL: https://datasheet.ciiva.com/27049/756490-27049780.pdf; ComponentLink1Description: https://datasheet.ciiva.com/27049/756490-27049780.pdf; ComponentLink2URL: https://datasheet.ciiva.com/26048/sn74lvc1g08-26048421.pdf; ComponentLink2Description: https://datasheet.ciiva.com/26048/sn74lvc1g08-26048421.pdf; ComponentLink3URL: https://datasheet.ciiva.com/16503/sn74lvc1g08-16503398.pdf; ComponentLink3Description: https://datasheet.ciiva.com/16503/sn74lvc1g08-16503398.pdf; ComponentLink4URL: https://datasheet.ciiva.com/46439/1834190-46439158.pdf; ComponentLink4Description: https://datasheet.ciiva.com/46439/1834190-46439158.pdf; ComponentLink5URL: https://datasheet.ciiva.com/1864/sn74lvc1g08-1864152.pdf; ComponentLink5Description: https://datasheet.ciiva.com/1864/sn74lvc1g08-1864152.pdf; ComponentLink6URL: https://datasheet.ciiva.com/1864/sn74lvc1g08-1864153.pdf; ComponentLink6Description: https://datasheet.ciiva.com/1864/sn74lvc1g08-1864153.pdf; ComponentLink7URL: https://datasheet.ciiva.com/1864/sn74lvc1g08-1864154.pdf; ComponentLink7Description: https://datasheet.ciiva.com/1864/sn74lvc1g08-1864154.pdf; ComponentLink8URL: https://datasheet.ciiva.com/28540/1772545-28540795.pdf; ComponentLink8Description: https://datasheet.ciiva.com/28540/1772545-28540795.pdf; ComponentLink9URL: https://datasheet.ciiva.com/15090/getdatasheetpartid-39173-15090028.pdf; ComponentLink9Description: https://datasheet.ciiva.com/15090/getdatasheetpartid-39173-15090028.pdf; ComponentLink10URL: https://datasheet.ciiva.com/14290/sn74lvc1g08-14290702.pdf; ComponentLink10Description: https://datasheet.ciiva.com/14290/sn74lvc1g08-14290702.pdf; ComponentLink11URL: https://datasheet.ciiva.com/48703/001074511-da-01-en-ic-2-input-sn74lvc1g08dbvr-sot-23-5-tid-48703802.pdf; ComponentLink11Description: https://datasheet.ciiva.com/48703/001074511-da-01-en-ic-2-input-sn74lvc1g08dbvr-sot-23-5-tid-48703802.pdf
footprint SOT-23T-5 (SOT-23-5pins.ogl)
part A pins: 1 (in), 2 (in), 4 (out)
part B pins: 3, 5 (power)
part B text: VCC; GND

## SN74LVC1G32DBVR
designator U?
IC Single 2-Input Positive-OR Gate SOT23-5; Manufacturer: Texas Instruments; TZOA PN: 238-00002; Logic Function: OR; Logic Family: 74LVC; Number of Gates: 1 Gate; Number of Input Lines: 2 Input; Number of Output Lines: 1 Output; High Level Output Current: - 32 mA; Low Level Output Current: 32 mA; Propagation Delay Time: 4.5 ns; Supply Voltage - Max: 5.5 V; Supply Voltage - Min: 1.65 V; Logic Type: 2-Input OR; Unit Weight: 0.000557 oz; Supplier 1: Digi-Key; Manufacturer Part Number: SN74LVC1G32DBVR; Stock 1: 36561; Pricing 1: 1=0.36, 10=0.29, 100=0.1978, 500=0.1483, 1000=0.1112 (USD); Product Category: Logic Gates; RoHS: True; Product: Single-Function Gate; Maximum Operating Temperature: + 85 C; Mounting Style: SMD/SMT; Package / Case: SOT-23-5; Packaging: Cut Tape (CT); Brand: Texas Instruments; Minimum Operating Temperature: - 40 C; Series: SN74LVC1G32; ComponentLink1URL: https://datasheet.ciiva.com/1864/sn74lvc1g32-1864212.pdf; ComponentLink1Description: https://datasheet.ciiva.com/1864/sn74lvc1g32-1864212.pdf; ComponentLink2URL: https://datasheet.ciiva.com/1864/sn74lvc1g32-1864213.pdf; ComponentLink2Description: https://datasheet.ciiva.com/1864/sn74lvc1g32-1864213.pdf; ComponentLink3URL: https://datasheet.ciiva.com/1864/sn74lvc1g32-1864214.pdf; ComponentLink3Description: https://datasheet.ciiva.com/1864/sn74lvc1g32-1864214.pdf; ComponentLink4URL: https://datasheet.ciiva.com/14290/sn74lvc1g32-14290775.pdf; ComponentLink4Description: https://datasheet.ciiva.com/14290/sn74lvc1g32-14290775.pdf; ComponentLink5URL: https://datasheet.ciiva.com/26049/sn74lvc1g32-26049791.pdf; ComponentLink5Description: https://datasheet.ciiva.com/26049/sn74lvc1g32-26049791.pdf; Supplier Part Number 1: 296-9847-1-ND
footprint SOT-23T-5 (SOT-23-5pins.ogl)
part A pins: 1 (in), 2 (in), 4 (out)
part B pins: 3, 5 (power)
part B text: VCC; GND

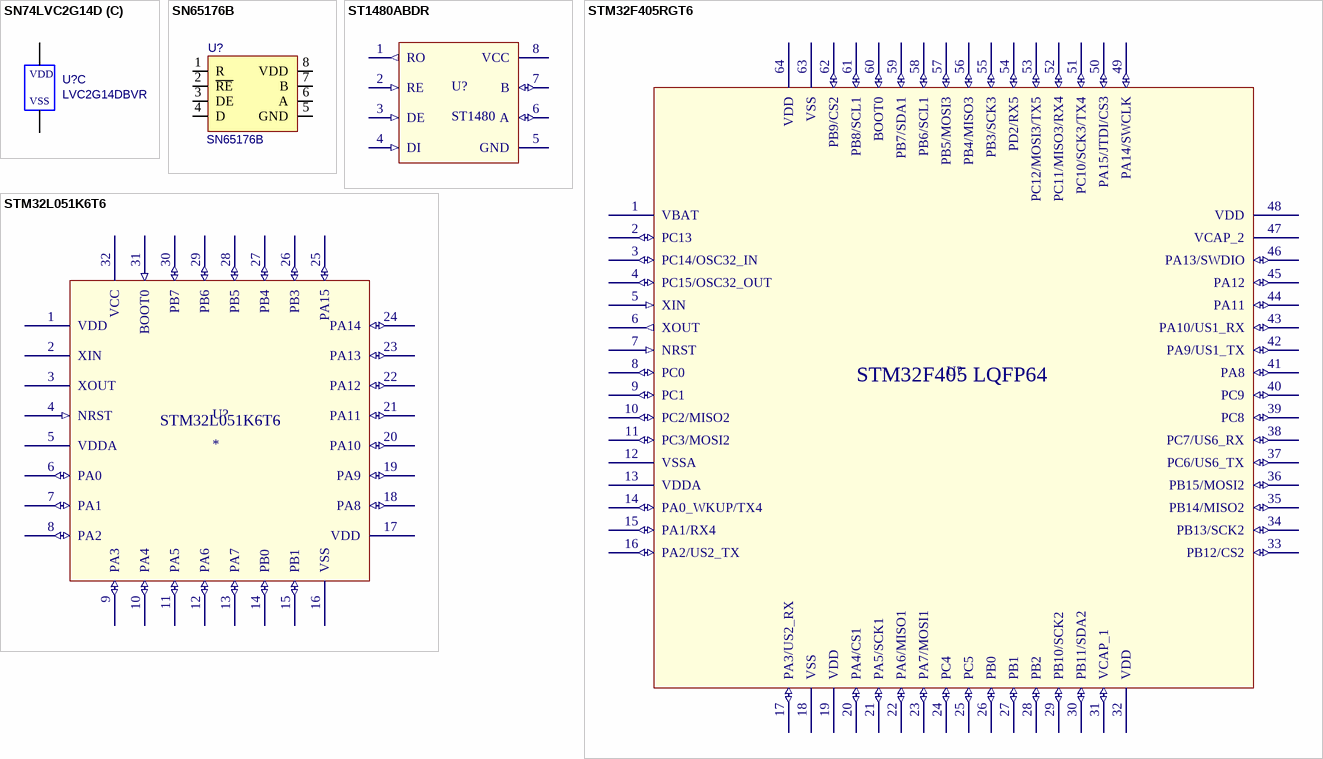
[diagram p1: symbols SN74LVC2G14D to STM32L051K6T6]

## SN74LVC2G14D
designator U?, comment LVC2G14DBVR
IC,SMD,Dual ST Inv,SOT-23-6; Manufacturer: TI; Manufacturer P/N: SN74LVC2G14DBVR; Fast Supplier: Digi-Key; Fast Supplier P/N: 296-13010-1-ND
footprint SOT-23T-6 (SOT-23.ogl)
part A pins: 1 (in), 6 (out)
part B pins: 3 (in), 4 (out)
part C pins: 2, 5 (power)
part C text: VDD; VSS

## SN65176B
designator U?
IC,SMD,RS485,Differential Bus Transceivers(Half-Duplex); Manufacturer P/N: SN65176B, SN75176B; Manufacturer: Texas Instruments; P/N: 349xxxx; UM: EA; Fast Supplier: DigiKey; Fast Supplier P/N: 296-14636-1-ND; Package: SOIC8; Temperature Range: -40°C ~ 105°C
footprint SOIC8
pins: 1 R, 2 ~{RE}, 3 DE, 4 D, 5 GND, 6 A, 7 B, 8 VDD
1 alternate drawing of the same symbol

## ST1480ABDR
designator U?, comment ST1480
Half Duplex Wide Temperature Range RS-485 Transciever; Manufacturer: STMicroelectronics; Manufacturer Part Number: ST1480ABDR; Protocol: RS422, RS485; Number of Drivers/Receivers: 1/1; Receiver Hysteresis: 30µV; Data Rate: 15Mbps; Voltage - Supply: 3 V ~ 3.6 V; ID: 1555583; Supplier 1: Digi-Key; RoHS: RoHS Compliant; Category: Integrated Circuits (ICs); Stock 1: 17489; Pricing 1: 1=2.06, 10=1.839, 100=1.4341, 500=1.18606, 1000=0.93796 (CAD); Packaging: Cut Tape (CT); Type: Transceiver; Duplex: Half; Operating Temperature: -40°C ~ 85°C; Mounting Type: Surface Mount; Package / Case: 8-SOIC (0.154", 3.90mm Width); Supplier Device Package: 8-SO; ComponentLink1URL: http://www.st.com/web/en/resource/technical/document/datasheet/CD00003136.pdf; ComponentLink1Description: http://www.st.com/web/en/resource/technical/document/datasheet/CD00003136.pdf; Supplier 2: Arrow; Stock 2: 2353; Pricing 2: 1=1.0338, 10=0.889, 25=0.8852, 100=0.7423, 250=0.7341, 500=0.6701, 1000=0.5113 (USD); Package Quantity: 1; ComponentLink2URL: https://www.arrow.com/en/products/st1480abdr/stmicroelectronics/; ComponentLink2Description: https://www.arrow.com/en/products/st1480abdr/stmicroelectronics/; Supplier Part Number 1: 497-2046-1-ND; Supplier Part Number 2: _QPNOPOYTacL7ha1jUFaxhiIOuGdjlc-5cCN13EVg40
footprint SOIC-8
pins: 1 RO (out), 2 RE (in), 3 DE (in), 4 DI (in), 5 GND (power), 6 A (io), 7 B (io), 8 VCC (power)

## STM32F405RGT6
designator U?, comment STM324F405  (value not drawn)
Cortex-M4 1MB Flash USB Ethernet Microcontroller; Manufacturer: STMicroelectronics; Manufacturer Part Number: STM32F405RGT6; Core Processor: ARM® Cortex®-M4; Core Size: 32-Bit; Speed: 168MHz; Connectivity: CAN, I²C, IrDA, LIN, SPI, UART/USART, USB OTG; Peripherals: Brown-out Detect/Reset, DMA, I²S, LCD, POR, PWM, WDT; Number of I/O: 51; Program Memory Size: 1MB (1M x 8); RAM Size: 192K x 8; Voltage - Supply (Vcc/Vdd): 1.8 V ~ 3.6 V; Data Converters: A/D 16x12b, D/A 2x12b; Oscillator Type: Internal; ID: 14999937; Supplier 1: Digi-Key; Supplier Part Number 1: 497-11767-ND; RoHS: RoHS Compliant; Category: Integrated Circuits (ICs); Stock: 15544; Pricing: 1=14.92, 10=13.718, 100=11.5859, 500=10.30646, 1000=9.4535 (CAD); Packaging: Tray; Program Memory Type: FLASH; EEPROM Size: -; Operating Temperature: -40°C ~ 85°C (TA); Package / Case: 64-LQFP; Supplier Device Package: 64-LQFP (10x10); ComponentLink1URL: http://www.st.com/web/en/resource/technical/document/datasheet/DM00037051.pdf; ComponentLink1Description: http://www.st.com/web/en/resource/technical/document/datasheet/DM00037051.pdf; Supplier 2: Arrow; Supplier Part Number 2: fCiuiM2RaORPcAywCAhgyvOI-V5QFfnbSYqb2T_z8X0; Package Quantity: 1; ComponentLink2URL: https://www.arrow.com/en/products/stm32f405rgt6v/stmicroelectronics/; ComponentLink2Description: https://www.arrow.com/en/products/stm32f405rgt6v/stmicroelectronics/
footprint STM32F405RGT6_64LQFP (Cortex-M4 1MB Flash USB Ethernet Microcontroller)
pins: 1 VBAT (power), 2 PC13 (io), 3 PC14/OSC32_IN (io), 4 PC15/OSC32_OUT (io), 5 XIN (in), 6 XOUT (out), 7 NRST (in), 8 PC0 (io), 9 PC1 (io), 10 PC2/MISO2 (io), 11 PC3/MOSI2 (io), 12 VSSA (power), 13 VDDA (power), 14 PA0_WKUP/TX4 (io), 15 PA1/RX4 (io), 16 PA2/US2_TX (io), 17 PA3/US2_RX (io), 18 VSS (power), 19 VDD (power), 20 PA4/CS1 (io), 21 PA5/SCK1 (io), 22 PA6/MISO1 (io), 23 PA7/MOSI1 (io), 24 PC4 (io), 25 PC5 (io), 26 PB0 (io), 27 PB1 (io), 28 PB2 (io), 29 PB10/SCK2 (io), 30 PB11/SDA2 (io), 31 VCAP_1 (io), 32 VDD (power), 33 PB12/CS2 (io), 34 PB13/SCK2 (io), 35 PB14/MISO2 (io), 36 PB15/MOSI2 (io), 37 PC6/US6_TX (io), 38 PC7/US6_RX (io), 39 PC8 (io), 40 PC9 (io), 41 PA8 (io), 42 PA9/US1_TX (io), 43 PA10/US1_RX (io), 44 PA11 (io), 45 PA12 (io), 46 PA13/SWDIO (io), 47 VCAP_2 (power), 48 VDD (power), 49 PA14/SWCLK (io), 50 PA15/JTDI/CS3 (io), 51 PC10/SCK3/TX4 (io), 52 PC11/MISO3/RX4 (io), 53 PC12/MOSI3/TX5 (io), 54 PD2/RX5 (io), 55 PB3/SCK3 (io), 56 PB4/MISO3 (io), 57 PB5/MOSI3 (io), 58 PB6/SCL1 (io), 59 PB7/SDA1 (io), 60 BOOT0 (io), 61 PB8/SCL1 (io), 62 PB9/CS2 (io), 63 VSS (power), 64 VDD (power)
text: STM32F405 LQFP64

## STM32L051K6T6
designator U?
32MHz Low Power Microcontroller 64KB Flash 8KB SRAM; Manufacturer: STMicroelectronics; Manufacturer Part Number: STM32L051K6T6; Core Processor: ARM® Cortex®-M0+; Core Size: 32-Bit; Connectivity: I²C, IrDA, SPI, UART/USART; Peripherals: Brown-out Detect/Reset, DMA, POR, PWM, WDT; Number of I/O: 27; Program Memory Size: 32KB (32K x 8); EEPROM Size: 2K x 8; RAM Size: 8K x 8; Voltage - Supply (Vcc/Vdd): 1.65 V ~ 3.6 V; Data Converters: A/D 10x12b; Oscillator Type: Internal; ID: 22452301; Supplier 1: Digi-Key; Supplier Part Number 1: STM32L051K6T6-ND; RoHS: RoHS Compliant; Category: Integrated Circuits (ICs); Stock: 0; Pricing: 1500=2.19203 (CAD); Packaging: Tray; Speed: 32MHz; Program Memory Type: FLASH; Operating Temperature: -40°C ~ 85°C (TA); Package / Case: 32-LQFP; Supplier Device Package: 32-LQFP (7x7); ComponentLink1URL: http://www.st.com/content/ccc/resource/technical/document/datasheet/9a/75/bd/16/0f/fd/49/19/DM00108219.pdf/files/DM00108219.pdf/jcr:content/translations/en.DM00108219.pdf; ComponentLink1Description: http://www.st.com/content/ccc/resource/technical/document/datasheet/9a/75/bd/16/0f/fd/49/19/DM00108219.pdf/files/DM00108219.pdf/jcr:content/translations/en.DM00108219.pdf; Supplier 2: Arrow; Supplier Part Number 2: I0RZhxFHyqqU04jZb4PXHcdV_e8YcpMFNyxWU9uoZoM; Package Quantity: 1; ComponentLink2URL: https://www.arrow.com/en/products/stm32l051k6t6/stmicroelectronics/; ComponentLink2Description: https://www.arrow.com/en/products/stm32l051k6t6/stmicroelectronics/
pins: 1 VDD (power), 2 XIN, 3 XOUT, 4 NRST (in), 5 VDDA (power), 6 PA0 (io), 7 PA1 (io), 8 PA2 (io), 9 PA3 (io), 10 PA4 (io), 11 PA5 (io), 12 PA6 (io), 13 PA7 (io), 14 PB0 (io), 15 PB1 (io), 16 VSS (power), 17 VDD (power), 18 PA8 (io), 19 PA9 (io), 20 PA10 (io), 21 PA11 (io), 22 PA12 (io), 23 PA13 (io), 24 PA14 (io), 25 PA15 (io), 26 PB3 (io), 27 PB4 (io), 28 PB5 (io), 29 PB6 (io), 30 PB7 (io), 31 BOOT0 (in), 32 VCC (power)

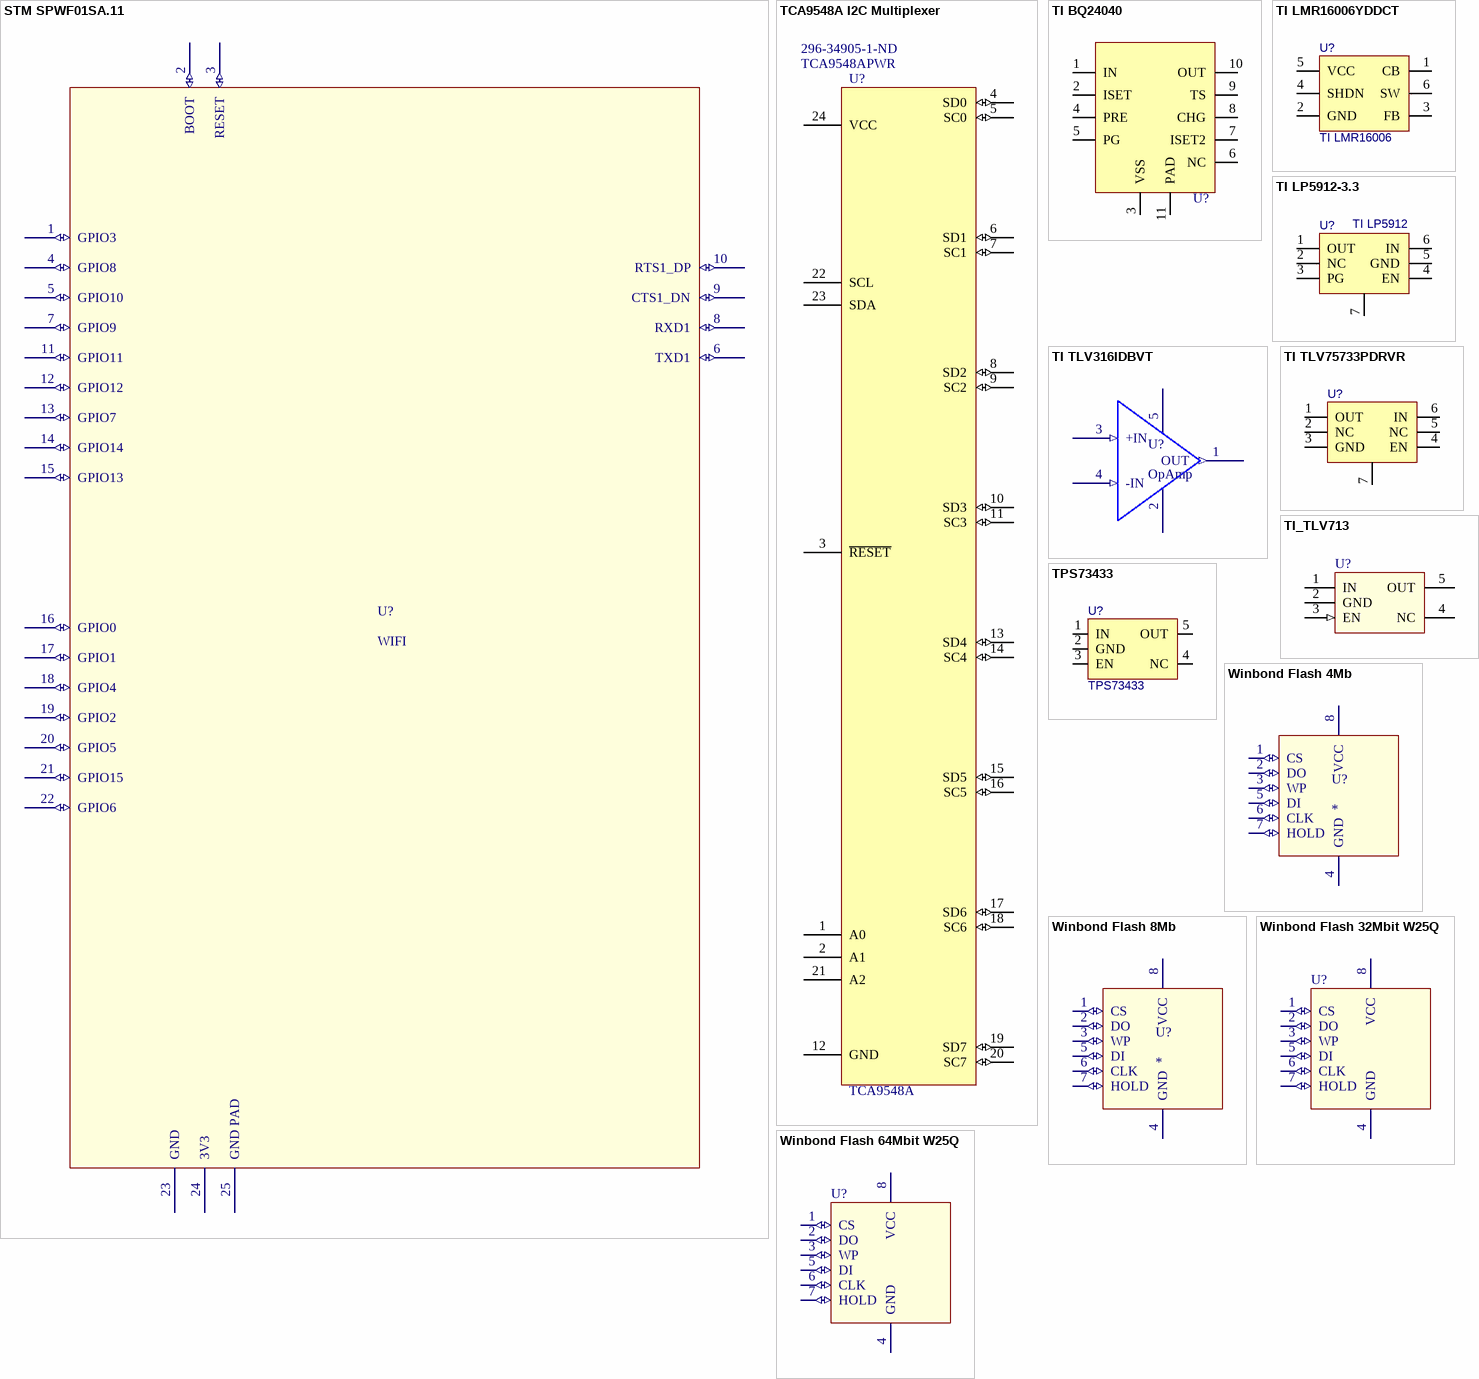
[diagram p2: symbols STM SPWF01SA.11 to Winbond Flash 64Mbit W25Q]